# Altium footprint library SAMTEC_ERF8-020-09.0-L-DV-K-TR.PcbLib: 1 footprints
Each footprint in its own frame and in the unit in brackets; x right, y up, seen from the top. Pads: shape width x height; smd on the part's side, far side on the other; paste and mask are expansions set on the pad; w line width, h text height; cw(c..) or ccw(c..) is an arc to the next point about the centre after c.
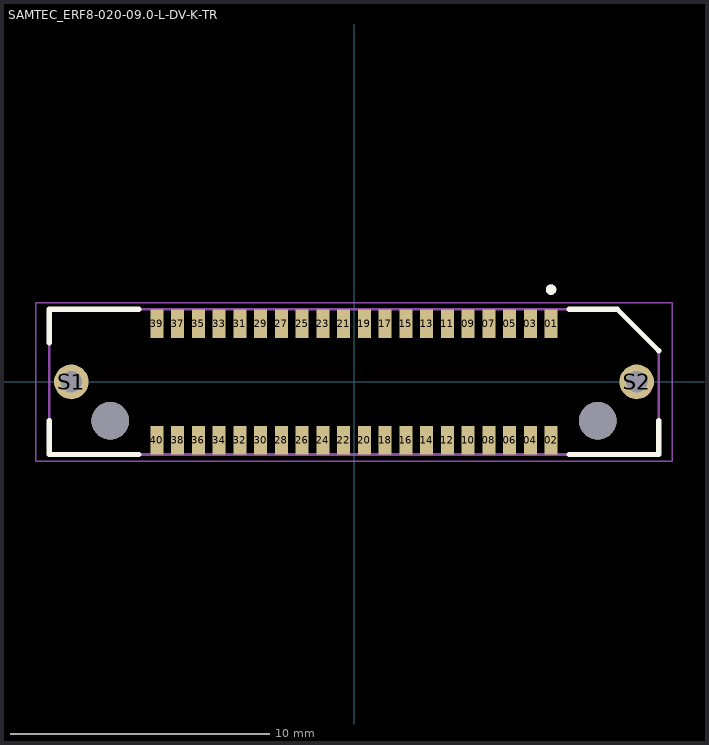
[diagram p0: the footprint, top view; thin cyan lines are the x and y axes]

## SAMTEC_ERF8-020-09.0-L-DV-K-TR [mm]
pads (44):
  rect 0.5x1.1 smd: 01(7.6,2.25) 02(7.6,-2.25) 03(6.8,2.25) 04(6.8,-2.25) 05(6,2.25) 06(6,-2.25) 07(5.2,2.25) 08(5.2,-2.25) 09(4.4,2.25) 10(4.4,-2.25) 11(3.6,2.25) 12(3.6,-2.25) 13(2.8,2.25) 14(2.8,-2.25) 15(2,2.25) 16(2,-2.25) 17(1.2,2.25) 18(1.2,-2.25) 19(0.4,2.25) 20(0.4,-2.25) 21(-0.4,2.25) 22(-0.4,-2.25) 23(-1.2,2.25) 24(-1.2,-2.25) 25(-2,2.25) 26(-2,-2.25) 27(-2.8,2.25) 28(-2.8,-2.25) 29(-3.6,2.25) 30(-3.6,-2.25) 31(-4.4,2.25) 32(-4.4,-2.25) 33(-5.2,2.25) 34(-5.2,-2.25) 35(-6,2.25) 36(-6,-2.25) 37(-6.8,2.25) 38(-6.8,-2.25) 39(-7.6,2.25) 40(-7.6,-2.25)
  round 1.338 hole 0.83: S1(-10.9,0) S2(10.9,0)
  round 1.45 hole 1.45 unplated: ""(-9.4,-1.5) ""(9.4,-1.5)
Top Overlay:
  circle w0.2: c7.6,3.56 r0.1
  lines w0.2: -11.75,-1.5 -11.75,-2.8 -8.3,-2.8 ; -11.75,1.5 -11.75,2.8 -8.3,2.8 ; 8.3,-2.8 11.75,-2.8 11.75,-1.5 ; 8.3,2.8 10.15,2.8 11.75,1.2
Top Paste:
  circle w1.12: c10.9,0 r0.56
  circle w1.12: c-10.9,0 r0.56
Mechanical 13:
  circle w0.2: c7.6,3.56 r0.1
  lines w0.1: -11.75,-2.8 -11.75,2.8 10.15,2.8 11.75,1.2 11.75,-2.8 -11.75,-2.8
Mechanical 15:
  lines w0.05: -12.27,-3.05 -12.27,3.05 12.27,3.05 12.27,-3.05 -12.27,-3.05
3D body "ERF8-020-09_0-L-DV-K-TR.stp": height 9.29, standoff -1.64, extent -11.75,-3 11.75,2.988